# EAGLE library part TEA1731 (library nxp_60_1_1)
GreenChip SMPS control IC The TEA1731LTS is a low cost Switched Mode Power Supply (SMPS) controller IC intended for flyback topologies. The TEA1731LTS operates in peak current and frequency control mode. Frequency jitter has been implemented to reduce ElectroMagnetic Interference (EMI). Slope compensation is integrated for Continuous Conduction Mode (CCM) operation. The TEA1731LTS IC features OverPower Protection (OPP). The controller accepts an overpower situation for a limited amount of time. One pin is reserved for protection purposes. OverTemperature Protection (OTP) can be implemented with a minimal number of external components. At low-power levels, the primary peak current is set to 25 % of the maximum peak current. The switching frequency is reduced to limit the switching losses. The combination of fixed frequency operation at high output power and frequency reduction at low output power provides high efficiency over the total load range. The TEA1731LTS makes the design of low cost, highly efficient and reliable supplies for power requirements up to 75 W easier by requiring a minimum number of external components. AAL Eindhoven MK
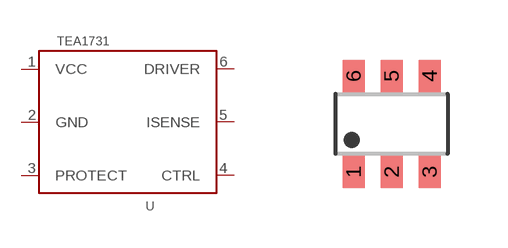
[diagram p97: symbol with the pads of SOT457; footprint SOT457]

Designator prefix U

## TEA1731LTS (12NC: 9352 965 45115), TEA1731TS (12NC: 9352 965 44115; FARNELL: 2142714)  [SOT457]
1  VCC  pwr
2  GND  in
3  PROTECT  pas
4  CTRL  in
5  ISENSE  out
6  DRIVER  pas

## Footprint SOT457 (pad centres in mm)
SOT457 TSOP6: Plastic surface-mounted package; 6 lead JEIDA: SC73 A.K.A. SOT23-6
smd 0.55 x 0.8: 1 -0.95,-1.2; 2 0,-1.2; 3 0.95,-1.2; 4 0.95,1.2; 5 0,1.2; 6 -0.95,1.2